# Altium footprint library IPC-7355 QFP_Sq_80P_Side_N.PcbLib: 5 footprints
Each footprint in its own frame and in the unit in brackets; x right, y up, seen from the top. Pads: shape width x height; smd on the part's side, far side on the other; paste and mask are expansions set on the pad; w line width, h text height; cw(c..) or ccw(c..) is an arc to the next point about the centre after c.
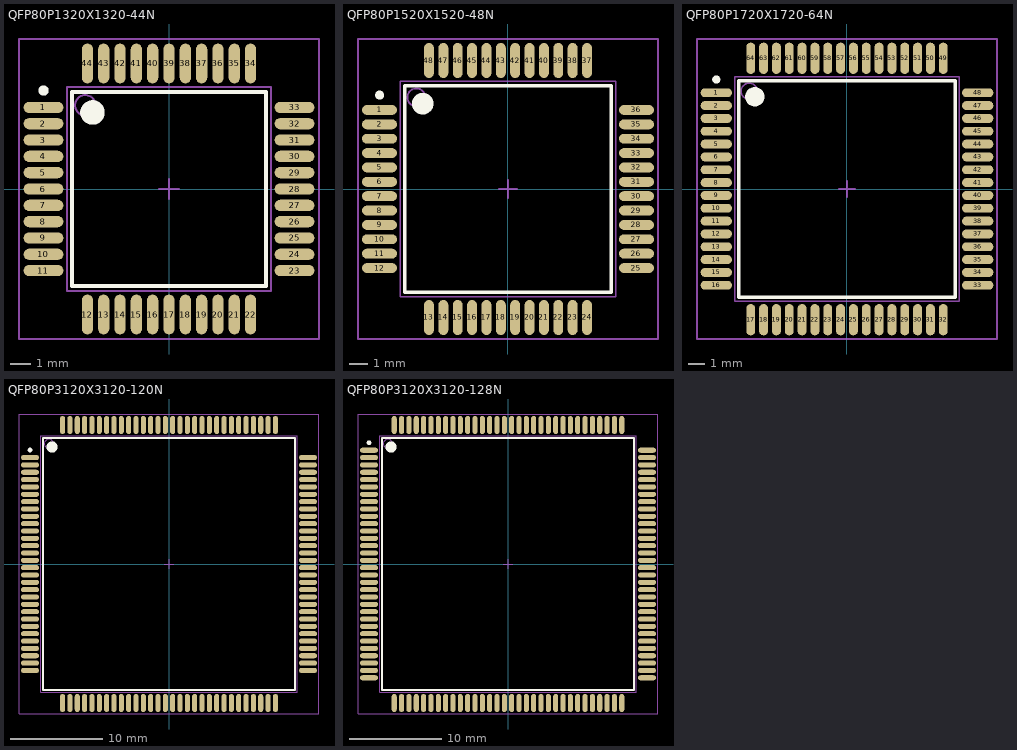
[diagram p0: the footprints below, top view; thin cyan lines are the x and y axes]

## QFP80P1320X1320-44N [mm] "QFP, 44-Leads, Body 10x10mm, Pitch 0.8mm, IPC Medium Density"
height 2.45
pads (44):
  oval 1.95x0.55 smd: 1(-6.15,4) 2(-6.15,3.2) 3(-6.15,2.4) 4(-6.15,1.6) 5(-6.15,0.8) 6(-6.15,0) 7(-6.15,-0.8) 8(-6.15,-1.6) 9(-6.15,-2.4) 10(-6.15,-3.2) 11(-6.15,-4) 23(6.15,-4) 24(6.15,-3.2) 25(6.15,-2.4) 26(6.15,-1.6) 27(6.15,-0.8) 28(6.15,0) 29(6.15,0.8) 30(6.15,1.6) 31(6.15,2.4) 32(6.15,3.2) 33(6.15,4)
  oval 0.55x1.95 smd: 12(-4,-6.15) 13(-3.2,-6.15) 14(-2.4,-6.15) 15(-1.6,-6.15) 16(-0.8,-6.15) 17(0,-6.15) 18(0.8,-6.15) 19(1.6,-6.15) 20(2.4,-6.15) 21(3.2,-6.15) 22(4,-6.15) 34(4,6.15) 35(3.2,6.15) 36(2.4,6.15) 37(1.6,6.15) 38(0.8,6.15) 39(0,6.15) 40(-0.8,6.15) 41(-1.6,6.15) 42(-2.4,6.15) 43(-3.2,6.15) 44(-4,6.15)
Top Overlay:
  circle w0.6: c-3.75,3.75 r0.3
  circle w0.25: c-6.15,4.825 r0.125
  lines w0.2: -4.75,-4.75 4.75,-4.75 4.75,4.75 -4.75,4.75 -4.75,-4.75
Mechanical 13:
  circle w0.1: c-4.1,4.1 r0.5
  lines w0.1: -5,-5 5,-5 5,5 -5,5 -5,-5
Mechanical 15:
  lines w0.1: -0.5,0 0.5,0 ; 0,-0.5 0,0.5 ; -7.35,-7.35 7.35,-7.35 7.35,7.35 -7.35,7.35 -7.35,-7.35
3D body: height 2.45, standoff 0, extent -5,-5 5,5

## QFP80P1520X1520-48N [mm] "QFP, 48-Leads, Body 12x12mm, Pitch 0.8mm, IPC Medium Density"
height 2.45
pads (48):
  oval 1.95x0.55 smd: 1(-7.15,4.4) 2(-7.15,3.6) 3(-7.15,2.8) 4(-7.15,2) 5(-7.15,1.2) 6(-7.15,0.4) 7(-7.15,-0.4) 8(-7.15,-1.2) 9(-7.15,-2) 10(-7.15,-2.8) 11(-7.15,-3.6) 12(-7.15,-4.4) 25(7.15,-4.4) 26(7.15,-3.6) 27(7.15,-2.8) 28(7.15,-2) 29(7.15,-1.2) 30(7.15,-0.4) 31(7.15,0.4) 32(7.15,1.2) 33(7.15,2) 34(7.15,2.8) 35(7.15,3.6) 36(7.15,4.4)
  oval 0.55x1.95 smd: 13(-4.4,-7.15) 14(-3.6,-7.15) 15(-2.8,-7.15) 16(-2,-7.15) 17(-1.2,-7.15) 18(-0.4,-7.15) 19(0.4,-7.15) 20(1.2,-7.15) 21(2,-7.15) 22(2.8,-7.15) 23(3.6,-7.15) 24(4.4,-7.15) 37(4.4,7.15) 38(3.6,7.15) 39(2.8,7.15) 40(2,7.15) 41(1.2,7.15) 42(0.4,7.15) 43(-0.4,7.15) 44(-1.2,7.15) 45(-2,7.15) 46(-2.8,7.15) 47(-3.6,7.15) 48(-4.4,7.15)
Top Overlay:
  circle w0.6: c-4.75,4.75 r0.3
  circle w0.25: c-7.15,5.225 r0.125
  lines w0.2: -5.75,-5.75 5.75,-5.75 5.75,5.75 -5.75,5.75 -5.75,-5.75
Mechanical 13:
  circle w0.1: c-5.1,5.1 r0.5
  lines w0.1: -6,-6 6,-6 6,6 -6,6 -6,-6
Mechanical 15:
  lines w0.1: -0.5,0 0.5,0 ; 0,-0.5 0,0.5 ; -8.35,-8.35 8.35,-8.35 8.35,8.35 -8.35,8.35 -8.35,-8.35
3D body: height 2.45, standoff 0, extent -6,-6 6,6

## QFP80P1720X1720-64N [mm] "QFP, 64-Leads, Body 14x14mm, Pitch 0.8mm, IPC Medium Density"
height 2.45
pads (64):
  oval 1.95x0.55 smd: 1(-8.15,6) 2(-8.15,5.2) 3(-8.15,4.4) 4(-8.15,3.6) 5(-8.15,2.8) 6(-8.15,2) 7(-8.15,1.2) 8(-8.15,0.4) 9(-8.15,-0.4) 10(-8.15,-1.2) 11(-8.15,-2) 12(-8.15,-2.8) 13(-8.15,-3.6) 14(-8.15,-4.4) 15(-8.15,-5.2) 16(-8.15,-6) 33(8.15,-6) 34(8.15,-5.2) 35(8.15,-4.4) 36(8.15,-3.6) 37(8.15,-2.8) 38(8.15,-2) 39(8.15,-1.2) 40(8.15,-0.4) 41(8.15,0.4) 42(8.15,1.2) 43(8.15,2) 44(8.15,2.8) 45(8.15,3.6) 46(8.15,4.4) 47(8.15,5.2) 48(8.15,6)
  oval 0.55x1.95 smd: 17(-6,-8.15) 18(-5.2,-8.15) 19(-4.4,-8.15) 20(-3.6,-8.15) 21(-2.8,-8.15) 22(-2,-8.15) 23(-1.2,-8.15) 24(-0.4,-8.15) 25(0.4,-8.15) 26(1.2,-8.15) 27(2,-8.15) 28(2.8,-8.15) 29(3.6,-8.15) 30(4.4,-8.15) 31(5.2,-8.15) 32(6,-8.15) 49(6,8.15) 50(5.2,8.15) 51(4.4,8.15) 52(3.6,8.15) 53(2.8,8.15) 54(2,8.15) 55(1.2,8.15) 56(0.4,8.15) 57(-0.4,8.15) 58(-1.2,8.15) 59(-2,8.15) 60(-2.8,8.15) 61(-3.6,8.15) 62(-4.4,8.15) 63(-5.2,8.15) 64(-6,8.15)
Top Overlay:
  circle w0.6: c-5.75,5.75 r0.3
  circle w0.25: c-8.15,6.825 r0.125
  lines w0.2: -6.75,-6.75 6.75,-6.75 6.75,6.75 -6.75,6.75 -6.75,-6.75
Mechanical 13:
  circle w0.1: c-6.1,6.1 r0.5
  lines w0.1: -7,-7 7,-7 7,7 -7,7 -7,-7
Mechanical 15:
  lines w0.1: -0.5,0 0.5,0 ; 0,-0.5 0,0.5 ; -9.35,-9.35 9.35,-9.35 9.35,9.35 -9.35,9.35 -9.35,-9.35
3D body: height 2.45, standoff 0, extent -7,-7 7,7

## QFP80P3120X3120-120N [mm] "QFP, 120-Leads, Body 28x28mm, Pitch 0.8mm, IPC Medium Density"
height 3.75
pads (120):
  oval 1.95x0.55 smd: 1(-15.15,11.6) 2(-15.15,10.8) 3(-15.15,10) 4(-15.15,9.2) 5(-15.15,8.4) 6(-15.15,7.6) 7(-15.15,6.8) 8(-15.15,6) 9(-15.15,5.2) 10(-15.15,4.4) 11(-15.15,3.6) 12(-15.15,2.8) 13(-15.15,2) 14(-15.15,1.2) 15(-15.15,0.4) 16(-15.15,-0.4) 17(-15.15,-1.2) 18(-15.15,-2) 19(-15.15,-2.8) 20(-15.15,-3.6) 21(-15.15,-4.4) 22(-15.15,-5.2) 23(-15.15,-6) 24(-15.15,-6.8) 25(-15.15,-7.6) 26(-15.15,-8.4) 27(-15.15,-9.2) 28(-15.15,-10) 29(-15.15,-10.8) 30(-15.15,-11.6) 61(15.15,-11.6) 62(15.15,-10.8) 63(15.15,-10) 64(15.15,-9.2) 65(15.15,-8.4) 66(15.15,-7.6) 67(15.15,-6.8) 68(15.15,-6) 69(15.15,-5.2) 70(15.15,-4.4) 71(15.15,-3.6) 72(15.15,-2.8) 73(15.15,-2) 74(15.15,-1.2) 75(15.15,-0.4) 76(15.15,0.4) 77(15.15,1.2) 78(15.15,2) 79(15.15,2.8) 80(15.15,3.6) 81(15.15,4.4) 82(15.15,5.2) 83(15.15,6) 84(15.15,6.8) 85(15.15,7.6) 86(15.15,8.4) 87(15.15,9.2) 88(15.15,10) 89(15.15,10.8) 90(15.15,11.6)
  oval 0.55x1.95 smd: 31(-11.6,-15.15) 32(-10.8,-15.15) 33(-10,-15.15) 34(-9.2,-15.15) 35(-8.4,-15.15) 36(-7.6,-15.15) 37(-6.8,-15.15) 38(-6,-15.15) 39(-5.2,-15.15) 40(-4.4,-15.15) 41(-3.6,-15.15) 42(-2.8,-15.15) 43(-2,-15.15) 44(-1.2,-15.15) 45(-0.4,-15.15) 46(0.4,-15.15) 47(1.2,-15.15) 48(2,-15.15) 49(2.8,-15.15) 50(3.6,-15.15) 51(4.4,-15.15) 52(5.2,-15.15) 53(6,-15.15) 54(6.8,-15.15) 55(7.6,-15.15) 56(8.4,-15.15) 57(9.2,-15.15) 58(10,-15.15) 59(10.8,-15.15) 60(11.6,-15.15) 91(11.6,15.15) 92(10.8,15.15) 93(10,15.15) 94(9.2,15.15) 95(8.4,15.15) 96(7.6,15.15) 97(6.8,15.15) 98(6,15.15) 99(5.2,15.15) 100(4.4,15.15) 101(3.6,15.15) 102(2.8,15.15) 103(2,15.15) 104(1.2,15.15) 105(0.4,15.15) 106(-0.4,15.15) 107(-1.2,15.15) 108(-2,15.15) 109(-2.8,15.15) 110(-3.6,15.15) 111(-4.4,15.15) 112(-5.2,15.15) 113(-6,15.15) 114(-6.8,15.15) 115(-7.6,15.15) 116(-8.4,15.15) 117(-9.2,15.15) 118(-10,15.15) 119(-10.8,15.15) 120(-11.6,15.15)
Top Overlay:
  circle w0.6: c-12.75,12.75 r0.3
  circle w0.25: c-15.15,12.425 r0.125
  lines w0.2: -13.75,-13.75 13.75,-13.75 13.75,13.75 -13.75,13.75 -13.75,-13.75
Mechanical 13:
  circle w0.1: c-13.1,13.1 r0.5
  lines w0.1: -14,-14 14,-14 14,14 -14,14 -14,-14
Mechanical 15:
  lines w0.1: -0.5,0 0.5,0 ; 0,-0.5 0,0.5 ; -16.35,-16.35 16.35,-16.35 16.35,16.35 -16.35,16.35 -16.35,-16.35
3D body: height 3.75, standoff 0, extent -14,-14 14,14

## QFP80P3120X3120-128N [mm] "QFP, 128-Leads, Body 28x28mm, Pitch 0.8mm, IPC Medium Density"
height 3.75
pads (128):
  oval 1.95x0.55 smd: 1(-15.15,12.4) 2(-15.15,11.6) 3(-15.15,10.8) 4(-15.15,10) 5(-15.15,9.2) 6(-15.15,8.4) 7(-15.15,7.6) 8(-15.15,6.8) 9(-15.15,6) 10(-15.15,5.2) 11(-15.15,4.4) 12(-15.15,3.6) 13(-15.15,2.8) 14(-15.15,2) 15(-15.15,1.2) 16(-15.15,0.4) 17(-15.15,-0.4) 18(-15.15,-1.2) 19(-15.15,-2) 20(-15.15,-2.8) 21(-15.15,-3.6) 22(-15.15,-4.4) 23(-15.15,-5.2) 24(-15.15,-6) 25(-15.15,-6.8) 26(-15.15,-7.6) 27(-15.15,-8.4) 28(-15.15,-9.2) 29(-15.15,-10) 30(-15.15,-10.8) 31(-15.15,-11.6) 32(-15.15,-12.4) 65(15.15,-12.4) 66(15.15,-11.6) 67(15.15,-10.8) 68(15.15,-10) 69(15.15,-9.2) 70(15.15,-8.4) 71(15.15,-7.6) 72(15.15,-6.8) 73(15.15,-6) 74(15.15,-5.2) 75(15.15,-4.4) 76(15.15,-3.6) 77(15.15,-2.8) 78(15.15,-2) 79(15.15,-1.2) 80(15.15,-0.4) 81(15.15,0.4) 82(15.15,1.2) 83(15.15,2) 84(15.15,2.8) 85(15.15,3.6) 86(15.15,4.4) 87(15.15,5.2) 88(15.15,6) 89(15.15,6.8) 90(15.15,7.6) 91(15.15,8.4) 92(15.15,9.2) 93(15.15,10) 94(15.15,10.8) 95(15.15,11.6) 96(15.15,12.4)
  oval 0.55x1.95 smd: 33(-12.4,-15.15) 34(-11.6,-15.15) 35(-10.8,-15.15) 36(-10,-15.15) 37(-9.2,-15.15) 38(-8.4,-15.15) 39(-7.6,-15.15) 40(-6.8,-15.15) 41(-6,-15.15) 42(-5.2,-15.15) 43(-4.4,-15.15) 44(-3.6,-15.15) 45(-2.8,-15.15) 46(-2,-15.15) 47(-1.2,-15.15) 48(-0.4,-15.15) 49(0.4,-15.15) 50(1.2,-15.15) 51(2,-15.15) 52(2.8,-15.15) 53(3.6,-15.15) 54(4.4,-15.15) 55(5.2,-15.15) 56(6,-15.15) 57(6.8,-15.15) 58(7.6,-15.15) 59(8.4,-15.15) 60(9.2,-15.15) 61(10,-15.15) 62(10.8,-15.15) 63(11.6,-15.15) 64(12.4,-15.15) 97(12.4,15.15) 98(11.6,15.15) 99(10.8,15.15) 100(10,15.15) 101(9.2,15.15) 102(8.4,15.15) 103(7.6,15.15) 104(6.8,15.15) 105(6,15.15) 106(5.2,15.15) 107(4.4,15.15) 108(3.6,15.15) 109(2.8,15.15) 110(2,15.15) 111(1.2,15.15) 112(0.4,15.15) 113(-0.4,15.15) 114(-1.2,15.15) 115(-2,15.15) 116(-2.8,15.15) 117(-3.6,15.15) 118(-4.4,15.15) 119(-5.2,15.15) 120(-6,15.15) 121(-6.8,15.15) 122(-7.6,15.15) 123(-8.4,15.15) 124(-9.2,15.15) 125(-10,15.15) 126(-10.8,15.15) 127(-11.6,15.15) 128(-12.4,15.15)
Top Overlay:
  circle w0.6: c-12.75,12.75 r0.3
  circle w0.25: c-15.15,13.225 r0.125
  lines w0.2: -13.75,-13.75 13.75,-13.75 13.75,13.75 -13.75,13.75 -13.75,-13.75
Mechanical 13:
  circle w0.1: c-13.1,13.1 r0.5
  lines w0.1: -14,-14 14,-14 14,14 -14,14 -14,-14
Mechanical 15:
  lines w0.1: -0.5,0 0.5,0 ; 0,-0.5 0,0.5 ; -16.35,-16.35 16.35,-16.35 16.35,16.35 -16.35,16.35 -16.35,-16.35
3D body: height 3.75, standoff 0, extent -14,-14 14,14